# EAGLE library part GRPB042VWQP (library con-sullins-grpb)
HEADER
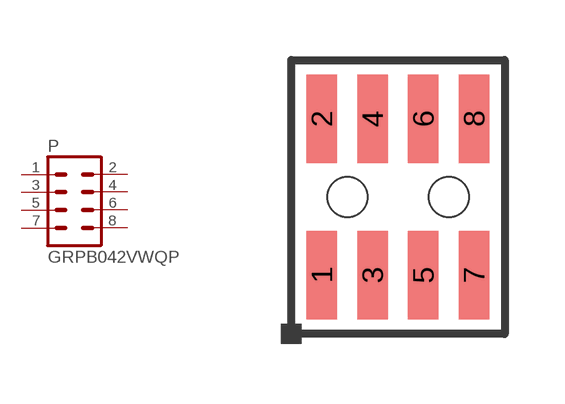
[diagram p1: symbol with the pads of GRPB042VWQP; footprint GRPB042VWQP]

Designator prefix P

## GRPB042VWQP  [GRPB042VWQP]
1  1  pas
2  2  pas
3  3  pas
4  4  pas
5  5  pas
6  6  pas
7  7  pas
8  8  pas

## Footprint GRPB042VWQP (pad centres in mm)
HEADER
smd 0.762 x 2.21: 1 -1.905,-1.956; 2 -1.905,1.956; 3 -0.635,-1.956; 4 -0.635,1.956; 5 0.635,-1.956; 6 0.635,1.956; 7 1.905,-1.956; 8 1.905,1.956
hole 1 at -1.27,0
hole 1 at 1.27,0